# EAGLE library part LED-4-BIT-7-SEG (library Discrete)
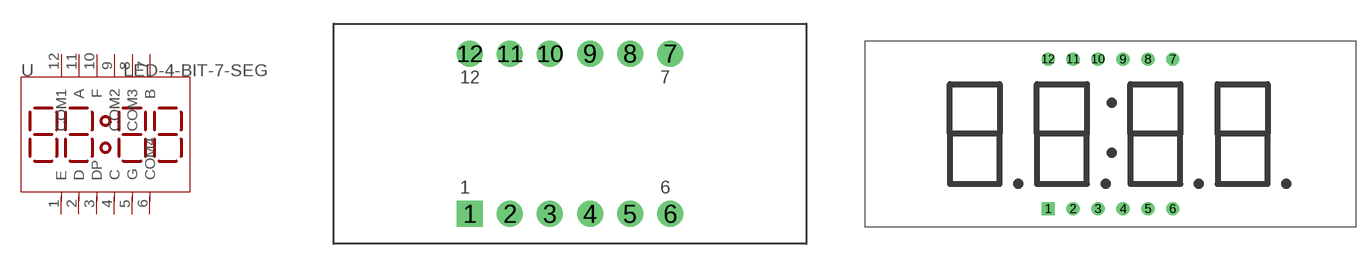
[diagram p5: symbol with the pads of 7-4-BIT-SEG-2.54-30X14X7.3H; footprints 7-4-BIT-SEG-2.54-30X14X7.3H, 7-4-BIT-SEG-2.54-50X19X8H]

Designator prefix U

## LED-4-BIT-7-SEG'30X14X7.3H'  [7-4-BIT-SEG-2.54-30X14X7.3H]
1  E
2  D
3  DP
4  C
5  G
6  COM4
7  B
8  COM3
9  COM2
10  F
11  A
12  COM1

## LED-4-BIT-7-SEG'SR430563K'  [7-4-BIT-SEG-2.54-50X19X8H]
Pads as for 7-4-BIT-SEG-2.54-30X14X7.3H

## Footprint 7-4-BIT-SEG-2.54-30X14X7.3H (pad centres in mm)
drill 0.889 pad 1.651 square: 1 -6.35,-5.08
drill 0.889 pad 1.651: 2 -3.81,-5.08; 3 -1.27,-5.08; 4 1.27,-5.08; 5 3.81,-5.08; 6 6.35,-5.08; 7 6.35,5.08; 8 3.81,5.08; 9 1.27,5.08; 10 -1.27,5.08; 11 -3.81,5.08; 12 -6.35,5.08

## Footprint 7-4-BIT-SEG-2.54-50X19X8H (pad centres in mm)
drill 0.8 pad 1.35 square: 1 -6.35,-7.62
drill 0.8 pad 1.35: 2 -3.81,-7.62; 3 -1.27,-7.62; 4 1.27,-7.62; 5 3.81,-7.62; 6 6.35,-7.62; 7 6.35,7.62; 8 3.81,7.62; 9 1.27,7.62; 10 -1.27,7.62; 11 -3.81,7.62; 12 -6.35,7.62